# Altium schematic symbol library ov7725.SchLib: 18 symbols
Pins are listed as number, name and electrical type; pins without a type are passive.

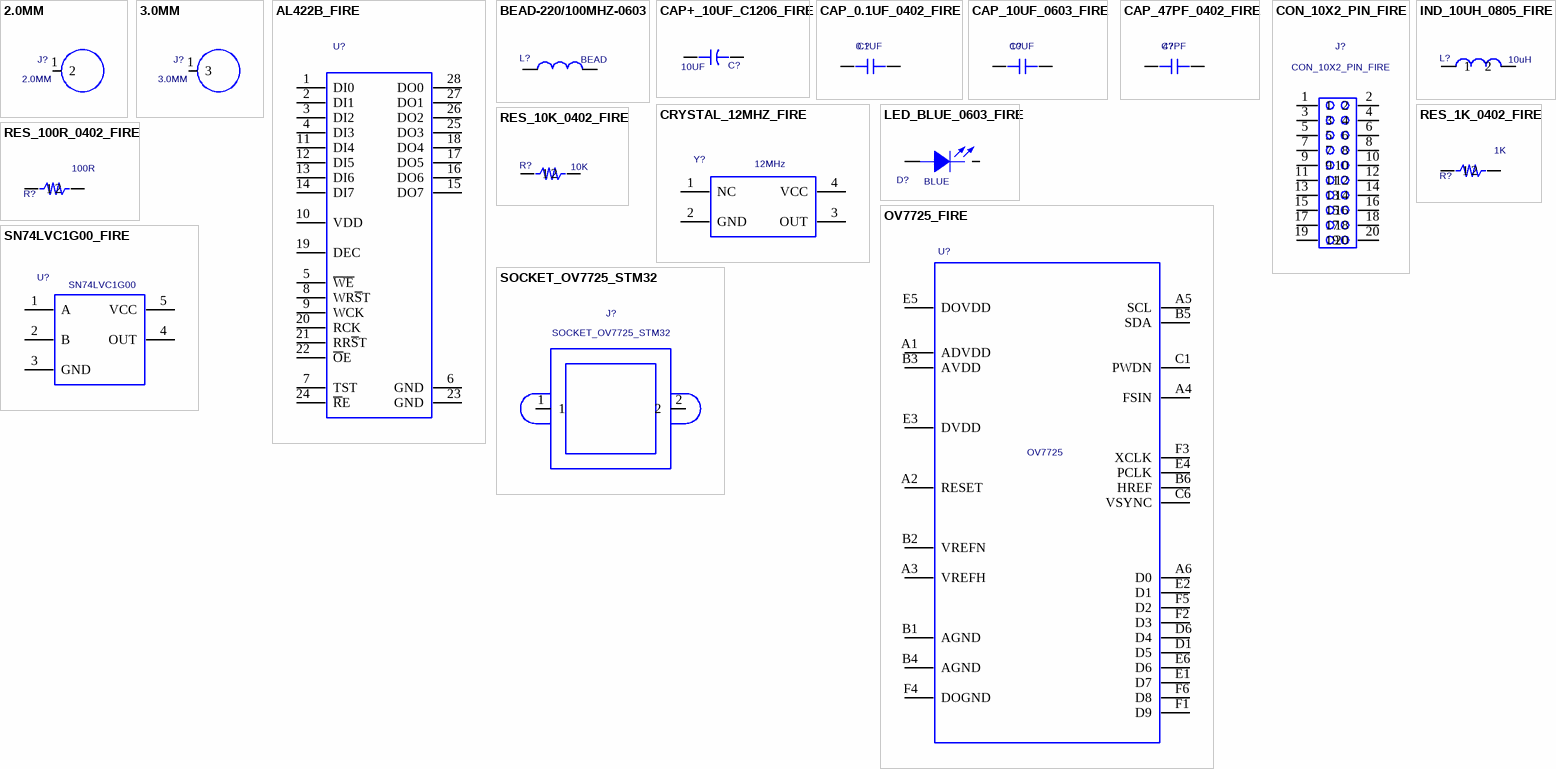
[diagram p0: symbols 2.0MM to SOCKET_OV7725_STM32]

## 2.0MM
designator J?
PCB DECAL: 2.0MM
footprint 2.0MM
pins: 1 2

## 3.0MM
designator J?
PCB DECAL: 3.0MM
footprint 3.0MM
pins: 1 3

## AL422B_FIRE
designator U?  (value not drawn)
AL422B; PCB DECAL: AL422B(28PINS); Manufacture 1 P/N: AL422B; Value: AL422B
footprint AL422B(28PINS)
pins: 1 DI0, 2 DI1, 3 DI2, 4 DI3, 5 ~{WE}, 6 GND, 7 TST, 8 WR~{S}T, 9 WCK, 10 VDD, 11 DI4, 12 DI5, 13 DI6, 14 DI7, 15 DO7, 16 DO6, 17 DO5, 18 DO4, 19 DEC, 20 RCK, 21 RR~{S}T, 22 ~{O}E, 23 GND, 24 ~{R}E, 25 DO3, 26 DO2, 27 DO1, 28 DO0

## BEAD-220/100MHZ-0603
designator L?  value BEAD  (hidden comment: BEAD-220/100MHZ-0603)
0603,BEAD; PCB DECAL: L0603; Manufacturer #1 PN: BEAD
footprint L0603
pins: 1, 2

## CAP+_10UF_C1206_FIRE
designator C?  value 10UF  (hidden comment: CAP+_10UF_C1206_FIRE)
PCB DECAL: C1206; Manufacture 1 P/N: 10uF
footprint C1206
pins: 1 +, 2 -

## CAP_0.1UF_0402_FIRE
designator C?  value 0.1UF  (hidden comment: CAP_0.1UF_0402_FIRE)
0402; Manufacture 1 P/N: 0.1uF(0402); PCB DECAL: SC0402
footprint SC0402
pins: 1, 2

## CAP_10UF_0603_FIRE
designator C?  value 10UF  (hidden comment: CAP_10UF_0603_FIRE)
SURFACE MOUNT CAPACITOR 0.031 X 0.061 INCHES; PCB DECAL: CAP_0603_FIRE
footprint CAP_0603_FIRE
pins: 1, 2

## CAP_47PF_0402_FIRE
designator C?  value 47PF  (hidden comment: CAP_47PF_0402_FIRE)
Manufacture 1 P/N: 47PF(0402); PCB DECAL: SC0402
footprint SC0402
pins: 1, 2

## CON_10X2_PIN_FIRE
designator J?
10X2,pin,2.54mm; PCB DECAL: 20PIN2.54_SMD; Manufacture 1 P/N: 10X2,pin,2.54mm; Value: 10X2,pin,2.54mm
footprint 20PIN2.54_SMD
pins: 1, 2, 3, 4, 5, 6, 7, 8, 9, 10, 11, 12, 13, 14, 15, 16, 17, 18, 19, 20

## CRYSTAL_12MHZ_FIRE
designator Y?  value 12MHz  (hidden comment: CRYSTAL_12MHZ_FIRE)
12MHz; PCB DECAL: CRYSTAL_SMD3.2X2.5_FIRE; Manufacture 1 P/N: 12MHz
footprint CRYSTAL_SMD3.2X2.5_FIRE
pins: 1 NC, 2 GND, 3 OUT, 4 VCC

## IND_10UH_0805_FIRE
designator L?  value 10uH  (hidden comment: IND_10UH_0805_FIRE)
0805; PCB DECAL: L0805; Manufacture 1 P/N: 10uH
footprint L0805
pins: 1, 2

## LED_BLUE_0603_FIRE
designator D?  value BLUE  (hidden comment: LED_BLUE_0603_FIRE)
blue,0603; PCB DECAL: LED_BLUE_0603_FIRE
footprint LED_BLUE_0603_FIRE
pins: A ANODE, K CATHODE

## OV7725_FIRE
designator U?  value OV7725  (hidden comment: OV7725_FIRE)
OV7725,30w; Manufacture 1: OV; Assembly: SMD; PCB DECAL: OV7725_CSP2_FIRE; Manufacture 1 P/N: OV7725
footprint OV7725_CSP2_FIRE
pins: A1 ADVDD, A2 RESET, A3 VREFH, A4 FSIN, A5 SCL, A6 D0, B1 AGND, B2 VREFN, B3 AVDD, B4 AGND, B5 SDA, B6 HREF, C1 PWDN, C6 VSYNC, D1 D5, D6 D4, E1 D7, E2 D1, E3 DVDD, E4 PCLK, E5 DOVDD, E6 D6, F1 D9, F2 D3, F3 XCLK, F4 DOGND, F5 D2, F6 D8

## RES_1K_0402_FIRE
designator R?  value 1K  (hidden comment: RES_1K_0402_FIRE)
0402; Manufacture 1: SUPEROHM; Assembly: SMD; Tolerance: +-5%; PCB DECAL: SR0402
footprint SR0402
pins: 1, 2

## RES_10K_0402_FIRE
designator R?  value 10K  (hidden comment: RES_10K_0402_FIRE)
0402; Manufacture 1: SUPEROHM; Assembly: SMD; Tolerance: +-5%; PCB DECAL: SR0402
footprint SR0402
pins: 1, 2

## RES_100R_0402_FIRE
designator R?  value 100R  (hidden comment: RES_100R_0402_FIRE)
100R(0402); Assembly: SMD; PCB DECAL: SR0402
footprint SR0402
pins: 1, 2

## SN74LVC1G00_FIRE
designator U?  value SN74LVC1G00  (hidden comment: SN74LVC1G00_FIRE)
SN74LVC1G00; PCB DECAL: SOT353_FIRE; Manufacture 1 P/N: SN74LVC1G00
footprint SOT353_FIRE
pins: 1 A, 2 B, 3 GND, 4 OUT, 5 VCC

## SOCKET_OV7725_STM32
designator J?
SENSOR_SOCKET_FIRE; Value: NF; PCB DECAL: OV7725-STM32; Manufacture 1 P/N: SENSOR_SOCKET_FIRE
footprint OV7725-STM32
pins: 1, 2